# EAGLE library part MM_C167 (library untitled)
Minimodul Phytec C167
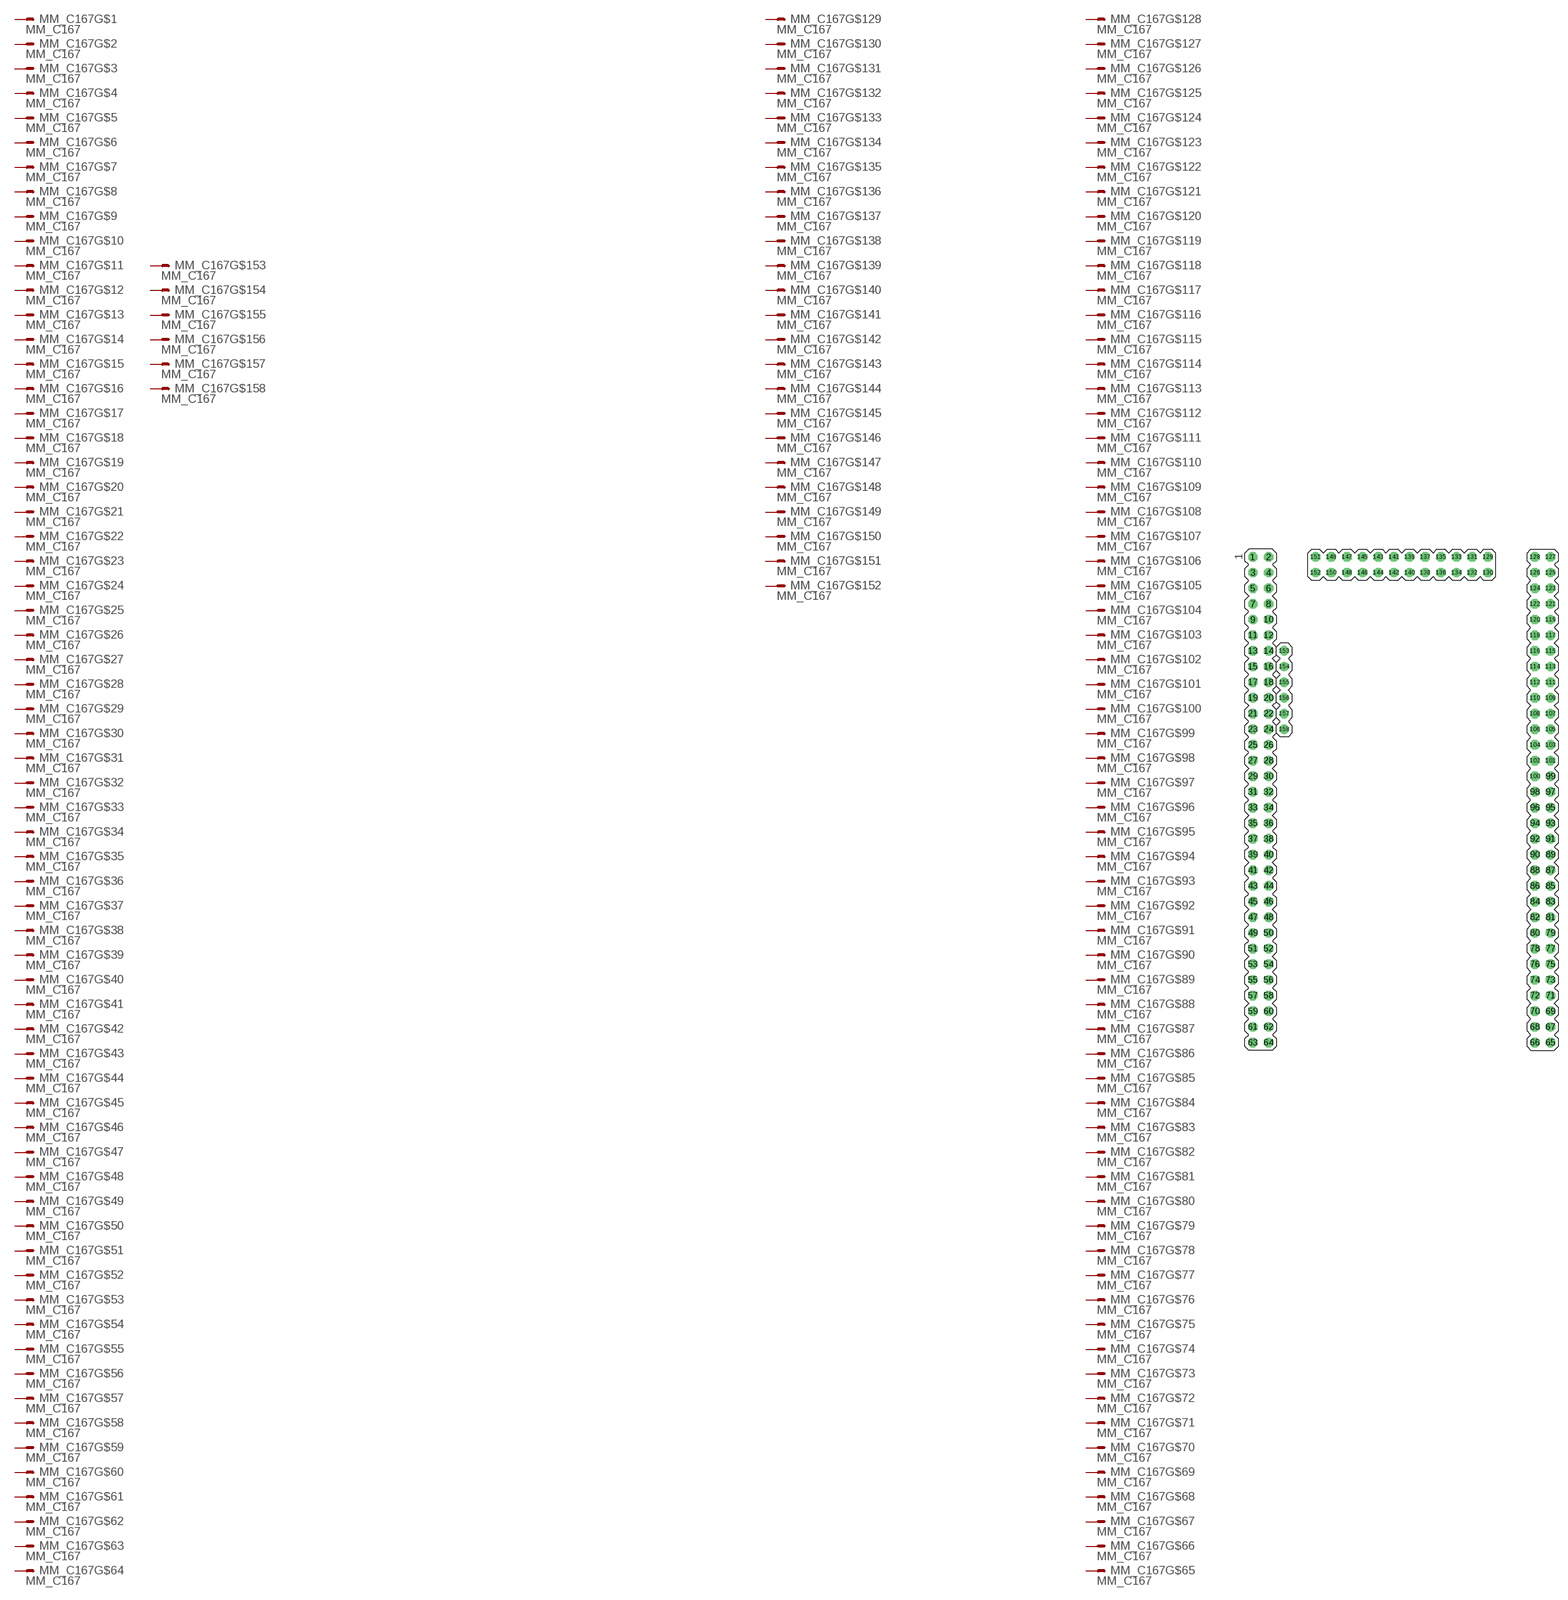
[diagram p0: symbol with the pads of MM_GES; footprint MM_GES]

Designator prefix MM_C167; gates G$1=M G$2=M G$3=M G$4=M G$5=M G$6=M G$7=M G$8=M G$9=M G$10=M G$11=M G$12=M G$13=M G$14=M G$15=M G$16=M G$17=M G$18=M G$19=M G$20=M G$21=M G$22=M G$23=M G$24=M G$25=M G$26=M G$27=M G$28=M G$29=M G$30=M G$31=M G$32=M G$33=M G$34=M G$35=M G$36=M G$37=M G$38=M G$39=M G$40=M G$41=M G$42=M G$43=M G$44=M G$45=M G$46=M G$47=M G$48=M G$49=M G$50=M G$51=M G$52=M G$53=M G$54=M G$55=M G$56=M G$57=M G$58=M G$59=M G$60=M G$61=M G$62=M G$63=M G$64=M G$65=M G$66=M G$67=M G$68=M G$69=M G$70=M G$71=M G$72=M G$73=M G$74=M G$75=M G$76=M G$77=M G$78=M G$79=M G$80=M G$81=M G$82=M G$83=M G$84=M G$85=M G$86=M G$87=M G$88=M G$89=M G$90=M G$91=M G$92=M G$93=M G$94=M G$95=M G$96=M G$97=M G$98=M G$99=M G$100=M G$101=M G$102=M G$103=M G$104=M G$105=M G$106=M G$107=M G$108=M G$109=M G$110=M G$111=M G$112=M G$113=M G$114=M G$115=M G$116=M G$117=M G$118=M G$119=M G$120=M G$121=M G$122=M G$123=M G$124=M G$125=M G$126=M G$127=M G$128=M G$129=M G$130=M G$131=M G$132=M G$133=M G$134=M G$135=M G$136=M G$137=M G$138=M G$139=M G$140=M G$141=M G$142=M G$143=M G$144=M G$145=M G$146=M G$147=M G$148=M G$149=M G$150=M G$151=M G$152=M G$153=M G$154=M G$155=M G$156=M G$157=M G$158=M

## MM_C167  [MM_GES]
1  G$1:S  pas
2  G$2:S  pas
3  G$3:S  pas
4  G$4:S  pas
5  G$5:S  pas
6  G$6:S  pas
7  G$7:S  pas
8  G$8:S  pas
9  G$9:S  pas
10  G$10:S  pas
11  G$11:S  pas
12  G$12:S  pas
13  G$13:S  pas
14  G$14:S  pas
15  G$15:S  pas
16  G$16:S  pas
17  G$17:S  pas
18  G$18:S  pas
19  G$19:S  pas
20  G$20:S  pas
21  G$21:S  pas
22  G$22:S  pas
23  G$23:S  pas
24  G$24:S  pas
25  G$25:S  pas
26  G$26:S  pas
27  G$27:S  pas
28  G$28:S  pas
29  G$29:S  pas
30  G$30:S  pas
31  G$31:S  pas
32  G$32:S  pas
33  G$33:S  pas
34  G$34:S  pas
35  G$35:S  pas
36  G$36:S  pas
37  G$37:S  pas
38  G$38:S  pas
39  G$39:S  pas
40  G$40:S  pas
41  G$41:S  pas
42  G$42:S  pas
43  G$43:S  pas
44  G$44:S  pas
45  G$45:S  pas
46  G$46:S  pas
47  G$47:S  pas
48  G$48:S  pas
49  G$49:S  pas
50  G$50:S  pas
51  G$51:S  pas
52  G$52:S  pas
53  G$53:S  pas
54  G$54:S  pas
55  G$55:S  pas
56  G$56:S  pas
57  G$57:S  pas
58  G$58:S  pas
59  G$59:S  pas
60  G$60:S  pas
61  G$61:S  pas
62  G$62:S  pas
63  G$63:S  pas
64  G$64:S  pas
65  G$65:S  pas
66  G$66:S  pas
67  G$67:S  pas
68  G$68:S  pas
69  G$69:S  pas
70  G$70:S  pas
71  G$71:S  pas
72  G$72:S  pas
73  G$73:S  pas
74  G$74:S  pas
75  G$75:S  pas
76  G$76:S  pas
77  G$77:S  pas
78  G$78:S  pas
79  G$79:S  pas
80  G$80:S  pas
81  G$81:S  pas
82  G$82:S  pas
83  G$83:S  pas
84  G$84:S  pas
85  G$85:S  pas
86  G$86:S  pas
87  G$87:S  pas
88  G$88:S  pas
89  G$89:S  pas
90  G$90:S  pas
91  G$91:S  pas
92  G$92:S  pas
93  G$93:S  pas
94  G$94:S  pas
95  G$95:S  pas
96  G$96:S  pas
97  G$97:S  pas
98  G$98:S  pas
99  G$99:S  pas
100  G$100:S  pas
101  G$101:S  pas
102  G$102:S  pas
103  G$103:S  pas
104  G$104:S  pas
105  G$105:S  pas
106  G$106:S  pas
107  G$107:S  pas
108  G$108:S  pas
109  G$109:S  pas
110  G$110:S  pas
111  G$111:S  pas
112  G$112:S  pas
113  G$113:S  pas
114  G$114:S  pas
115  G$115:S  pas
116  G$116:S  pas
117  G$117:S  pas
118  G$118:S  pas
119  G$119:S  pas
120  G$120:S  pas
121  G$121:S  pas
122  G$122:S  pas
123  G$123:S  pas
124  G$124:S  pas
125  G$125:S  pas
126  G$126:S  pas
127  G$127:S  pas
128  G$128:S  pas
129  G$129:S  pas
130  G$130:S  pas
131  G$131:S  pas
132  G$132:S  pas
133  G$133:S  pas
134  G$134:S  pas
135  G$135:S  pas
136  G$136:S  pas
137  G$137:S  pas
138  G$138:S  pas
139  G$139:S  pas
140  G$140:S  pas
141  G$141:S  pas
142  G$142:S  pas
143  G$143:S  pas
144  G$144:S  pas
145  G$145:S  pas
146  G$146:S  pas
147  G$147:S  pas
148  G$148:S  pas
149  G$149:S  pas
150  G$150:S  pas
151  G$151:S  pas
152  G$152:S  pas
153  G$153:S  pas
154  G$154:S  pas
155  G$155:S  pas
156  G$156:S  pas
157  G$157:S  pas
158  G$158:S  pas

## Footprint MM_GES (pad centres in mm)
drill 1.016 octagon: 1 -24.13,39.37; 2 -21.59,39.37; 3 -24.13,36.83; 4 -21.59,36.83; 5 -24.13,34.29; 6 -21.59,34.29; 7 -24.13,31.75; 8 -21.59,31.75; 9 -24.13,29.21; 10 -21.59,29.21; 11 -24.13,26.67; 12 -21.59,26.67; 13 -24.13,24.13; 14 -21.59,24.13; 15 -24.13,21.59; 16 -21.59,21.59; 17 -24.13,19.05; 18 -21.59,19.05; 19 -24.13,16.51; 20 -21.59,16.51; 21 -24.13,13.97; 22 -21.59,13.97; 23 -24.13,11.43; 24 -21.59,11.43; 25 -24.13,8.89; 26 -21.59,8.89; 27 -24.13,6.35; 28 -21.59,6.35; 29 -24.13,3.81; 30 -21.59,3.81; 31 -24.13,1.27; 32 -21.59,1.27; 33 -24.13,-1.27; 34 -21.59,-1.27; 35 -24.13,-3.81; 36 -21.59,-3.81; 37 -24.13,-6.35; 38 -21.59,-6.35; 39 -24.13,-8.89; 40 -21.59,-8.89; 41 -24.13,-11.43; 42 -21.59,-11.43; 43 -24.13,-13.97; 44 -21.59,-13.97; 45 -24.13,-16.51; 46 -21.59,-16.51; 47 -24.13,-19.05; 48 -21.59,-19.05; 49 -24.13,-21.59; 50 -21.59,-21.59; 51 -24.13,-24.13; 52 -21.59,-24.13; 53 -24.13,-26.67; 54 -21.59,-26.67; 55 -24.13,-29.21; 56 -21.59,-29.21; 57 -24.13,-31.75; 58 -21.59,-31.75; 59 -24.13,-34.29; 60 -21.59,-34.29; 61 -24.13,-36.83; 62 -21.59,-36.83; 63 -24.13,-39.37; 64 -21.59,-39.37; 65 24.13,-39.37; 66 21.59,-39.37; 67 24.13,-36.83; 68 21.59,-36.83; 69 24.13,-34.29; 70 21.59,-34.29; 71 24.13,-31.75; 72 21.59,-31.75; 73 24.13,-29.21; 74 21.59,-29.21; 75 24.13,-26.67; 76 21.59,-26.67; 77 24.13,-24.13; 78 21.59,-24.13; 79 24.13,-21.59; 80 21.59,-21.59; 81 24.13,-19.05; 82 21.59,-19.05; 83 24.13,-16.51; 84 21.59,-16.51; 85 24.13,-13.97; 86 21.59,-13.97; 87 24.13,-11.43; 88 21.59,-11.43; 89 24.13,-8.89; 90 21.59,-8.89; 91 24.13,-6.35; 92 21.59,-6.35; 93 24.13,-3.81; 94 21.59,-3.81; 95 24.13,-1.27; 96 21.59,-1.27; 97 24.13,1.27; 98 21.59,1.27; 99 24.13,3.81; 100 21.59,3.81; 101 24.13,6.35; 102 21.59,6.35; 103 24.13,8.89; 104 21.59,8.89; 105 24.13,11.43; 106 21.59,11.43; 107 24.13,13.97; 108 21.59,13.97; 109 24.13,16.51; 110 21.59,16.51; 111 24.13,19.05; 112 21.59,19.05; 113 24.13,21.59; 114 21.59,21.59; 115 24.13,24.13; 116 21.59,24.13; 117 24.13,26.67; 118 21.59,26.67; 119 24.13,29.21; 120 21.59,29.21; 121 24.13,31.75; 122 21.59,31.75; 123 24.13,34.29; 124 21.59,34.29; 125 24.13,36.83; 126 21.59,36.83; 127 24.13,39.37; 128 21.59,39.37; 129 13.97,39.37; 130 13.97,36.83; 131 11.43,39.37; 132 11.43,36.83; 133 8.89,39.37; 134 8.89,36.83; 135 6.35,39.37; 136 6.35,36.83; 137 3.81,39.37; 138 3.81,36.83; 139 1.27,39.37; 140 1.27,36.83; 141 -1.27,39.37; 142 -1.27,36.83; 143 -3.81,39.37; 144 -3.81,36.83; 145 -6.35,39.37; 146 -6.35,36.83; 147 -8.89,39.37; 148 -8.89,36.83; 149 -11.43,39.37; 150 -11.43,36.83; 151 -13.97,39.37; 152 -13.97,36.83
drill 1.016 round: 153 -19.05,24.13; 154 -19.05,21.59; 155 -19.05,19.05; 156 -19.05,16.51; 157 -19.05,13.97; 158 -19.05,11.43